# Altium integrated library NSC RF and IF Frequency Synthesiser.IntLib: 34 symbols
Pins are listed as number, name and electrical type; pins without a type are passive.

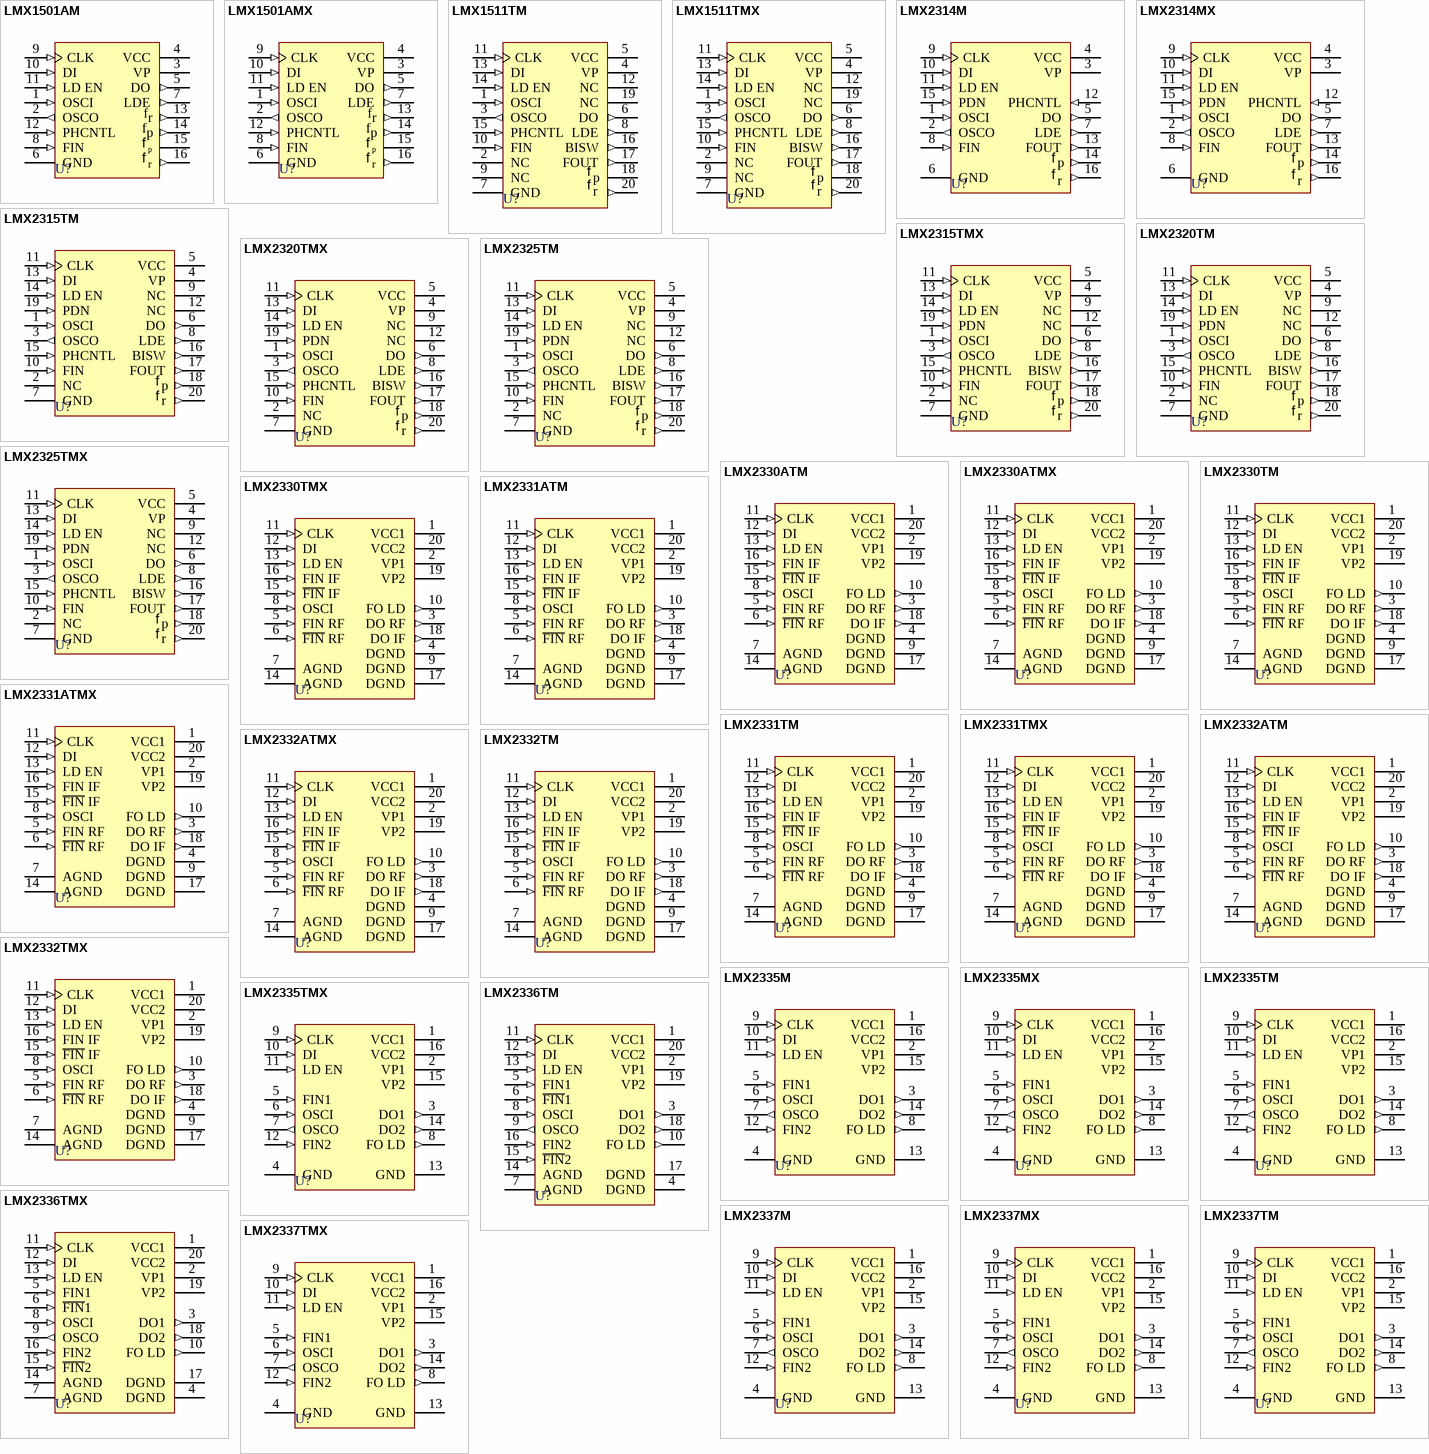
[diagram p0: symbols LMX1501AM to LMX2337TMX]

## LMX1501AM
designator U?
1.1 GHz Frequency Synthesizer for RF Personal Communication; ComponentAvailability: Obsolete; Published: 15-Apr-2002; LatestRevisionDate: 13-Apr-2006; LatestRevisionNote: IPC-7351 Footprint Added.; DatasheetVersion: Nov-1995; PackageVersion: 2000; PackageReference: M16A; Publisher: Altium Limited; PackageDescription: 16-Pin Small Outline Integrated Circuit 1.27 mm Pitch; Code_IPC: SOIC127P600-16; ComponentLink1Description: Manufacturer Link; ComponentLink1URL: http://www.national.com/; ComponentLink2Description: Discontinuation Notice; ComponentLink2URL: http://www.national.com/obs/obsolescence.txt; ComponentLink3Description: URL Link1; ComponentLink3URL: http://www.national.com/pf/LM/LMX1501A.html
footprint M16A_N (SOIC, 16-Leads, Body 9.9x3.9mm, Pitch 1.27mm, IPC Medium Density)
footprint M16A_L (SOIC, 16-Leads, Body 9.9x3.9mm, Pitch 1.27mm, IPC High Density)
footprint M16A_M (SOIC, 16-Leads, Body 9.9x3.9mm, Pitch 1.27mm, IPC Low Density)
3D model M16A (16-Pin Small Outline Integrated Circuit 1.27 mm Pitch)
pins: 1 OSCI (in), 2 OSCO (out), 3 VP (power), 4 VCC (power), 5 DO (out), 6 GND (power), 7 LDE (out), 8 FIN (in), 9 CLK (in), 10 DI (in), 11 LD EN (in), 12 PHCNTL (in), 13 Fr (out), 14 Fp (out), 15 PHIp (oc), 16 PHIr (out)
text: f; r; p

## LMX1501AMX
designator U?
1.1 GHz Frequency Synthesizer for RF Personal Communication; ComponentAvailability: Obsolete; Published: 15-Apr-2002; LatestRevisionDate: 13-Apr-2006; LatestRevisionNote: IPC-7351 Footprint Added.; DatasheetVersion: Nov-1995; PackageVersion: 2000; PackageReference: M16A; Publisher: Altium Limited; PackageDescription: 16-Pin Small Outline Integrated Circuit 1.27 mm Pitch; Code_IPC: SOIC127P600-16; ComponentLink1Description: Manufacturer Link; ComponentLink1URL: http://www.national.com/; ComponentLink2Description: Discontinuation Notice; ComponentLink2URL: http://www.national.com/obs/obsolescence.txt; ComponentLink3Description: URL Link1; ComponentLink3URL: http://www.national.com/pf/LM/LMX1501A.html
footprint M16A_N (SOIC, 16-Leads, Body 9.9x3.9mm, Pitch 1.27mm, IPC Medium Density)
footprint M16A_L (SOIC, 16-Leads, Body 9.9x3.9mm, Pitch 1.27mm, IPC High Density)
footprint M16A_M (SOIC, 16-Leads, Body 9.9x3.9mm, Pitch 1.27mm, IPC Low Density)
3D model M16A (16-Pin Small Outline Integrated Circuit 1.27 mm Pitch)
pins: 1 OSCI (in), 2 OSCO (out), 3 VP (power), 4 VCC (power), 5 DO (out), 6 GND (power), 7 LDE (out), 8 FIN (in), 9 CLK (in), 10 DI (in), 11 LD EN (in), 12 PHCNTL (in), 13 Fr (out), 14 Fp (out), 15 PHIp (oc), 16 PHIr (out)
text: f; r; p

## LMX1511TM
designator U?
1.1 GHz Frequency Synthesizer for RF Personal Communication; ComponentAvailability: Obsolete; Published: 15-Apr-2002; LatestRevisionDate: 06-Jun-2005; LatestRevisionNote: Stylized 3D Model Added.; DatasheetVersion: Nov-1995; PackageVersion: 2000; PackageReference: MTC20; Publisher: Altium Limited; PackageDescription: Shrink Small Outline; 20 Leads; Body Width 4.4 mm; Pitch 0.65 mm; ComponentLink1Description: Manufacturer Link; ComponentLink1URL: http://www.national.com/; ComponentLink2Description: Discontinuation Notice; ComponentLink2URL: http://www.national.com/obs/obsolescence.txt; ComponentLink3Description: URL Link1; ComponentLink3URL: http://www.national.com/pf/LM/LMX1511.html
footprint MTC20 (Shrink Small Outline; 20 Leads; Body Width 4.4 mm; Pitch 0.65 mm)
3D model MTC20 (Shrink Small Outline; 20 Leads; Body Width 4.4 mm; Pitch 0.65 mm)
pins: 1 OSCI (in), 2 NC, 3 OSCO (out), 4 VP (power), 5 VCC (power), 6 DO (out), 7 GND (power), 8 LDE (out), 9 NC, 10 FIN (in), 11 CLK (in), 12 NC, 13 DI (in), 14 LD EN (in), 15 PHCNTL (in), 16 BISW (out), 17 FOUT (out), 18 PHIp (oc), 19 NC (power), 20 PHIr (out)
text: f; p; r

## LMX1511TMX
designator U?
1.1 GHz Frequency Synthesizer for RF Personal Communication; ComponentAvailability: Obsolete; Published: 15-Apr-2002; LatestRevisionDate: 06-Jun-2005; LatestRevisionNote: Stylized 3D Model Added.; DatasheetVersion: Nov-1995; PackageVersion: 2000; PackageReference: MTC20; Publisher: Altium Limited; PackageDescription: Shrink Small Outline; 20 Leads; Body Width 4.4 mm; Pitch 0.65 mm; ComponentLink1Description: Manufacturer Link; ComponentLink1URL: http://www.national.com/; ComponentLink2Description: Discontinuation Notice; ComponentLink2URL: http://www.national.com/obs/obsolescence.txt; ComponentLink3Description: URL Link1; ComponentLink3URL: http://www.national.com/pf/LM/LMX1511.html
footprint MTC20 (Shrink Small Outline; 20 Leads; Body Width 4.4 mm; Pitch 0.65 mm)
3D model MTC20 (Shrink Small Outline; 20 Leads; Body Width 4.4 mm; Pitch 0.65 mm)
pins: 1 OSCI (in), 2 NC, 3 OSCO (out), 4 VP (power), 5 VCC (power), 6 DO (out), 7 GND (power), 8 LDE (out), 9 NC, 10 FIN (in), 11 CLK (in), 12 NC, 13 DI (in), 14 LD EN (in), 15 PHCNTL (in), 16 BISW (out), 17 FOUT (out), 18 PHIp (oc), 19 NC (power), 20 PHIr (out)
text: f; p; r

## LMX2314M
designator U?
1.2GHz Frequency Synthesizer for RF Personal Communication; Published: 15-Apr-2002; LatestRevisionDate: 13-Apr-2006; LatestRevisionNote: IPC-7351 Footprint Added.; DatasheetVersion: Feb-1995; PackageVersion: 2000; PackageReference: M16A; Publisher: Altium Limited; PackageDescription: 16-Pin Small Outline Integrated Circuit 1.27 mm Pitch; Code_IPC: SOIC127P600-16; ComponentLink1Description: Manufacturer Link; ComponentLink1URL: http://www.national.com/
footprint M16A_N (SOIC, 16-Leads, Body 9.9x3.9mm, Pitch 1.27mm, IPC Medium Density)
footprint M16A_L (SOIC, 16-Leads, Body 9.9x3.9mm, Pitch 1.27mm, IPC High Density)
footprint M16A_M (SOIC, 16-Leads, Body 9.9x3.9mm, Pitch 1.27mm, IPC Low Density)
3D model M16A (16-Pin Small Outline Integrated Circuit 1.27 mm Pitch)
pins: 1 OSCI (in), 2 OSCO (out), 3 VP (power), 4 VCC (power), 5 DO (out), 6 GND (power), 7 LDE (out), 8 FIN (in), 9 CLK (in), 10 DI (in), 11 LD EN (in), 12 PHCNTL (in), 13 FOUT (out), 14 PHIp (out), 15 PDN (in), 16 PHIr (out)
text: f; p; r

## LMX2314MX
designator U?
1.2GHz Frequency Synthesizer for RF Personal Communication; ComponentAvailability: Obsolete; Published: 15-Apr-2002; LatestRevisionDate: 13-Apr-2006; LatestRevisionNote: IPC-7351 Footprint Added.; DatasheetVersion: Feb-1995; PackageVersion: 2000; PackageReference: M16A; Publisher: Altium Limited; PackageDescription: 16-Pin Small Outline Integrated Circuit 1.27 mm Pitch; Code_IPC: SOIC127P600-16; ComponentLink1Description: Manufacturer Link; ComponentLink1URL: http://www.national.com/; ComponentLink2Description: Discontinuation Notice; ComponentLink2URL: http://www.national.com/obs/obsolescence.txt
footprint M16A_N (SOIC, 16-Leads, Body 9.9x3.9mm, Pitch 1.27mm, IPC Medium Density)
footprint M16A_L (SOIC, 16-Leads, Body 9.9x3.9mm, Pitch 1.27mm, IPC High Density)
footprint M16A_M (SOIC, 16-Leads, Body 9.9x3.9mm, Pitch 1.27mm, IPC Low Density)
3D model M16A (16-Pin Small Outline Integrated Circuit 1.27 mm Pitch)
pins: 1 OSCI (in), 2 OSCO (out), 3 VP (power), 4 VCC (power), 5 DO (out), 6 GND (power), 7 LDE (out), 8 FIN (in), 9 CLK (in), 10 DI (in), 11 LD EN (in), 12 PHCNTL (in), 13 FOUT (out), 14 PHIp (out), 15 PDN (in), 16 PHIr (out)
text: f; p; r

## LMX2315TM
designator U?
1.2GHz Frequency Synthesizer for RF Personal Communication; ComponentAvailability: Obsolete; Published: 15-Apr-2002; LatestRevisionDate: 06-Jun-2005; LatestRevisionNote: Stylized 3D Model Added.; DatasheetVersion: Sep-1996; PackageVersion: 2000; PackageReference: MTC20; Publisher: Altium Limited; PackageDescription: Shrink Small Outline; 20 Leads; Body Width 4.4 mm; Pitch 0.65 mm; ComponentLink1Description: Manufacturer Link; ComponentLink1URL: http://www.national.com/; ComponentLink2Description: Discontinuation Notice; ComponentLink2URL: http://www.national.com/obs/obsolescence.txt; ComponentLink3Description: URL Link1; ComponentLink3URL: http://www.national.com/pf/LM/LMX2315.html
footprint MTC20 (Shrink Small Outline; 20 Leads; Body Width 4.4 mm; Pitch 0.65 mm)
3D model MTC20 (Shrink Small Outline; 20 Leads; Body Width 4.4 mm; Pitch 0.65 mm)
pins: 1 OSCI (in), 2 NC, 3 OSCO (out), 4 VP (power), 5 VCC (power), 6 DO (out), 7 GND (power), 8 LDE (out), 9 NC, 10 FIN (in), 11 CLK (in), 12 NC, 13 DI (in), 14 LD EN (in), 15 PHCNTL (in), 16 BISW (out), 17 FOUT (out), 18 PHIp (out), 19 PDN (in), 20 PHIr (out)
text: f; p; r

## LMX2315TMX
designator U?
1.2GHz Frequency Synthesizer for RF Personal Communication; ComponentAvailability: Obsolete; Published: 15-Apr-2002; LatestRevisionDate: 06-Jun-2005; LatestRevisionNote: Stylized 3D Model Added.; DatasheetVersion: Sep-1996; PackageVersion: 2000; PackageReference: MTC20; Publisher: Altium Limited; PackageDescription: Shrink Small Outline; 20 Leads; Body Width 4.4 mm; Pitch 0.65 mm; ComponentLink1Description: Manufacturer Link; ComponentLink1URL: http://www.national.com/; ComponentLink2Description: Discontinuation Notice; ComponentLink2URL: http://www.national.com/obs/obsolescence.txt; ComponentLink3Description: URL Link1; ComponentLink3URL: http://www.national.com/pf/LM/LMX2315.html
footprint MTC20 (Shrink Small Outline; 20 Leads; Body Width 4.4 mm; Pitch 0.65 mm)
3D model MTC20 (Shrink Small Outline; 20 Leads; Body Width 4.4 mm; Pitch 0.65 mm)
pins: 1 OSCI (in), 2 NC, 3 OSCO (out), 4 VP (power), 5 VCC (power), 6 DO (out), 7 GND (power), 8 LDE (out), 9 NC, 10 FIN (in), 11 CLK (in), 12 NC, 13 DI (in), 14 LD EN (in), 15 PHCNTL (in), 16 BISW (out), 17 FOUT (out), 18 PHIp (out), 19 PDN (in), 20 PHIr (out)
text: f; p; r

## LMX2320TM
designator U?
2.0 GHz Frequency Synthesizer for RF Personal Communication; ComponentAvailability: Obsolete; Published: 15-Apr-2002; LatestRevisionDate: 06-Jun-2005; LatestRevisionNote: Stylized 3D Model Added.; DatasheetVersion: Sep-1996; PackageVersion: 2000; PackageReference: MTC20; Publisher: Altium Limited; PackageDescription: Shrink Small Outline; 20 Leads; Body Width 4.4 mm; Pitch 0.65 mm; ComponentLink1Description: Manufacturer Link; ComponentLink1URL: http://www.national.com/; ComponentLink2Description: Discontinuation Notice; ComponentLink2URL: http://www.national.com/obs/obsolescence.txt; ComponentLink3Description: URL Link1; ComponentLink3URL: http://www.national.com/pf/LM/LMX2320.html
footprint MTC20 (Shrink Small Outline; 20 Leads; Body Width 4.4 mm; Pitch 0.65 mm)
3D model MTC20 (Shrink Small Outline; 20 Leads; Body Width 4.4 mm; Pitch 0.65 mm)
pins: 1 OSCI (in), 2 NC, 3 OSCO (out), 4 VP (power), 5 VCC (power), 6 DO (out), 7 GND (power), 8 LDE (out), 9 NC, 10 FIN (in), 11 CLK (in), 12 NC, 13 DI (in), 14 LD EN (in), 15 PHCNTL (in), 16 BISW (out), 17 FOUT (out), 18 PHIp (out), 19 PDN (in), 20 PHIr (out)
text: f; p; r

## LMX2320TMX
designator U?
2.0 GHz Frequency Synthesizer for RF Personal Communication; ComponentAvailability: Obsolete; Published: 15-Apr-2002; LatestRevisionDate: 06-Jun-2005; LatestRevisionNote: Stylized 3D Model Added.; DatasheetVersion: Sep-1996; PackageVersion: 2000; PackageReference: MTC20; Publisher: Altium Limited; PackageDescription: Shrink Small Outline; 20 Leads; Body Width 4.4 mm; Pitch 0.65 mm; ComponentLink1Description: Manufacturer Link; ComponentLink1URL: http://www.national.com/; ComponentLink2Description: Discontinuation Notice; ComponentLink2URL: http://www.national.com/obs/obsolescence.txt; ComponentLink3Description: URL Link1; ComponentLink3URL: http://www.national.com/pf/LM/LMX2320.html
footprint MTC20 (Shrink Small Outline; 20 Leads; Body Width 4.4 mm; Pitch 0.65 mm)
3D model MTC20 (Shrink Small Outline; 20 Leads; Body Width 4.4 mm; Pitch 0.65 mm)
pins: 1 OSCI (in), 2 NC, 3 OSCO (out), 4 VP (power), 5 VCC (power), 6 DO (out), 7 GND (power), 8 LDE (out), 9 NC, 10 FIN (in), 11 CLK (in), 12 NC, 13 DI (in), 14 LD EN (in), 15 PHCNTL (in), 16 BISW (out), 17 FOUT (out), 18 PHIp (out), 19 PDN (in), 20 PHIr (out)
text: f; p; r

## LMX2325TM
designator U?
2.5 GHz Frequency Synthesizer for RF Personal Communication; ComponentAvailability: Obsolete; Published: 15-Apr-2002; LatestRevisionDate: 06-Jun-2005; LatestRevisionNote: Stylized 3D Model Added.; DatasheetVersion: Sep-1996; PackageVersion: 2000; PackageReference: MTC20; Publisher: Altium Limited; PackageDescription: Shrink Small Outline; 20 Leads; Body Width 4.4 mm; Pitch 0.65 mm; ComponentLink1Description: Manufacturer Link; ComponentLink1URL: http://www.national.com/; ComponentLink2Description: Discontinuation Notice; ComponentLink2URL: http://www.national.com/obs/obsolescence.txt; ComponentLink3Description: URL Link1; ComponentLink3URL: http://www.national.com/pf/LM/LMX2325.html
footprint MTC20 (Shrink Small Outline; 20 Leads; Body Width 4.4 mm; Pitch 0.65 mm)
3D model MTC20 (Shrink Small Outline; 20 Leads; Body Width 4.4 mm; Pitch 0.65 mm)
pins: 1 OSCI (in), 2 NC, 3 OSCO (out), 4 VP (power), 5 VCC (power), 6 DO (out), 7 GND (power), 8 LDE (out), 9 NC, 10 FIN (in), 11 CLK (in), 12 NC, 13 DI (in), 14 LD EN (in), 15 PHCNTL (in), 16 BISW (out), 17 FOUT (out), 18 PHIp (out), 19 PDN (in), 20 PHIr (out)
text: f; p; r

## LMX2325TMX
designator U?
2.5 GHz Frequency Synthesizer for RF Personal Communication; ComponentAvailability: Obsolete; Published: 15-Apr-2002; LatestRevisionDate: 06-Jun-2005; LatestRevisionNote: Stylized 3D Model Added.; DatasheetVersion: Sep-1996; PackageVersion: 2000; PackageReference: MTC20; Publisher: Altium Limited; PackageDescription: Shrink Small Outline; 20 Leads; Body Width 4.4 mm; Pitch 0.65 mm; ComponentLink1Description: Manufacturer Link; ComponentLink1URL: http://www.national.com/; ComponentLink2Description: Discontinuation Notice; ComponentLink2URL: http://www.national.com/obs/obsolescence.txt; ComponentLink3Description: URL Link1; ComponentLink3URL: http://www.national.com/pf/LM/LMX2325.html
footprint MTC20 (Shrink Small Outline; 20 Leads; Body Width 4.4 mm; Pitch 0.65 mm)
3D model MTC20 (Shrink Small Outline; 20 Leads; Body Width 4.4 mm; Pitch 0.65 mm)
pins: 1 OSCI (in), 2 NC, 3 OSCO (out), 4 VP (power), 5 VCC (power), 6 DO (out), 7 GND (power), 8 LDE (out), 9 NC, 10 FIN (in), 11 CLK (in), 12 NC, 13 DI (in), 14 LD EN (in), 15 PHCNTL (in), 16 BISW (out), 17 FOUT (out), 18 PHIp (out), 19 PDN (in), 20 PHIr (out)
text: f; p; r

## LMX2330ATM
designator U?
2.5GHz/510MHz Dual Frequency Synthesizer for RF Personal Communication; ComponentAvailability: Obsolete; Published: 15-Apr-2002; LatestRevisionDate: 06-Jun-2005; LatestRevisionNote: Stylized 3D Model Added.; DatasheetVersion: May-1999; PackageVersion: 2000; PackageReference: MTC20; Publisher: Altium Limited; PackageDescription: Shrink Small Outline; 20 Leads; Body Width 4.4 mm; Pitch 0.65 mm; ComponentLink1Description: Manufacturer Link; ComponentLink1URL: http://www.national.com/; ComponentLink2Description: Discontinuation Notice; ComponentLink2URL: http://www.national.com/obs/obsolescence.txt; ComponentLink3Description: URL Link1; ComponentLink3URL: http://www.national.com/pf/LM/LMX2330A.html
footprint MTC20 (Shrink Small Outline; 20 Leads; Body Width 4.4 mm; Pitch 0.65 mm)
3D model MTC20 (Shrink Small Outline; 20 Leads; Body Width 4.4 mm; Pitch 0.65 mm)
pins: 1 VCC1 (power), 2 VP1 (power), 3 DO RF (out), 4 DGND (power), 5 FIN RF (in), 6 ~{FIN} RF (in), 7 AGND (power), 8 OSCI (in), 9 DGND (power), 10 FO LD (out), 11 CLK (in), 12 DI (in), 13 LD EN (in), 14 AGND (power), 15 ~{FIN} IF (in), 16 FIN IF (in), 17 DGND (power), 18 DO IF (out), 19 VP2 (power), 20 VCC2 (power)

## LMX2330ATMX
designator U?
2.5GHz/510MHz Dual Frequency Synthesizer for RF Personal Communication; ComponentAvailability: Obsolete; Published: 15-Apr-2002; LatestRevisionDate: 06-Jun-2005; LatestRevisionNote: Stylized 3D Model Added.; DatasheetVersion: May-1999; PackageVersion: 2000; PackageReference: MTC20; Publisher: Altium Limited; PackageDescription: Shrink Small Outline; 20 Leads; Body Width 4.4 mm; Pitch 0.65 mm; ComponentLink1Description: Manufacturer Link; ComponentLink1URL: http://www.national.com/; ComponentLink2Description: Discontinuation Notice; ComponentLink2URL: http://www.national.com/obs/obsolescence.txt; ComponentLink3Description: URL Link1; ComponentLink3URL: http://www.national.com/pf/LM/LMX2330A.html
footprint MTC20 (Shrink Small Outline; 20 Leads; Body Width 4.4 mm; Pitch 0.65 mm)
3D model MTC20 (Shrink Small Outline; 20 Leads; Body Width 4.4 mm; Pitch 0.65 mm)
pins: 1 VCC1 (power), 2 VP1 (power), 3 DO RF (out), 4 DGND (power), 5 FIN RF (in), 6 ~{FIN} RF (in), 7 AGND (power), 8 OSCI (in), 9 DGND (power), 10 FO LD (out), 11 CLK (in), 12 DI (in), 13 LD EN (in), 14 AGND (power), 15 ~{FIN} IF (in), 16 FIN IF (in), 17 DGND (power), 18 DO IF (out), 19 VP2 (power), 20 VCC2 (power)

## LMX2330TM
designator U?
2.5GHz/510MHz Dual Frequency Synthesizer for RF Personal Communication; Published: 15-Apr-2002; LatestRevisionDate: 06-Jun-2005; LatestRevisionNote: Stylized 3D Model Added.; DatasheetVersion: Jan-1995; PackageVersion: 2000; PackageReference: MTA20; Publisher: Altium Limited; PackageDescription: Shrink Small Outline; 20 Leads; Body Width 4.4 mm; Pitch 0.65 mm; ComponentLink1Description: Manufacturer Link; ComponentLink1URL: http://www.national.com/
footprint MTA20 (Shrink Small Outline; 20 Leads; Body Width 4.4 mm; Pitch 0.65 mm)
3D model MTC20 (Shrink Small Outline; 20 Leads; Body Width 4.4 mm; Pitch 0.65 mm)
pins: 1 VCC1 (power), 2 VP1 (power), 3 DO RF (out), 4 DGND (power), 5 FIN RF (in), 6 ~{FIN} RF (in), 7 AGND (power), 8 OSCI (in), 9 DGND (power), 10 FO LD (out), 11 CLK (in), 12 DI (in), 13 LD EN (in), 14 AGND (power), 15 ~{FIN} IF (in), 16 FIN IF (in), 17 DGND (power), 18 DO IF (out), 19 VP2 (power), 20 VCC2 (power)

## LMX2330TMX
designator U?
2.5GHz/510MHz Dual Frequency Synthesizer for RF Personal Communication; Published: 15-Apr-2002; LatestRevisionDate: 06-Jun-2005; LatestRevisionNote: Stylized 3D Model Added.; DatasheetVersion: Jan-1995; PackageVersion: 2000; PackageReference: MTA20; Publisher: Altium Limited; PackageDescription: Shrink Small Outline; 20 Leads; Body Width 4.4 mm; Pitch 0.65 mm; ComponentLink1Description: Manufacturer Link; ComponentLink1URL: http://www.national.com/
footprint MTA20 (Shrink Small Outline; 20 Leads; Body Width 4.4 mm; Pitch 0.65 mm)
3D model MTC20 (Shrink Small Outline; 20 Leads; Body Width 4.4 mm; Pitch 0.65 mm)
pins: 1 VCC1 (power), 2 VP1 (power), 3 DO RF (out), 4 DGND (power), 5 FIN RF (in), 6 ~{FIN} RF (in), 7 AGND (power), 8 OSCI (in), 9 DGND (power), 10 FO LD (out), 11 CLK (in), 12 DI (in), 13 LD EN (in), 14 AGND (power), 15 ~{FIN} IF (in), 16 FIN IF (in), 17 DGND (power), 18 DO IF (out), 19 VP2 (power), 20 VCC2 (power)

## LMX2331ATM
designator U?
2.0GHz/510MHz Dual Frequency Synthesizer for RF Personal Communication; ComponentAvailability: Obsolete; Published: 15-Apr-2002; LatestRevisionDate: 06-Jun-2005; LatestRevisionNote: Stylized 3D Model Added.; DatasheetVersion: May-1999; PackageVersion: 2000; PackageReference: MTC20; Publisher: Altium Limited; PackageDescription: Shrink Small Outline; 20 Leads; Body Width 4.4 mm; Pitch 0.65 mm; ComponentLink1Description: Manufacturer Link; ComponentLink1URL: http://www.national.com/; ComponentLink2Description: Discontinuation Notice; ComponentLink2URL: http://www.national.com/obs/obsolescence.txt; ComponentLink3Description: URL Link1; ComponentLink3URL: http://www.national.com/pf/LM/LMX2331A.html
footprint MTC20 (Shrink Small Outline; 20 Leads; Body Width 4.4 mm; Pitch 0.65 mm)
3D model MTC20 (Shrink Small Outline; 20 Leads; Body Width 4.4 mm; Pitch 0.65 mm)
pins: 1 VCC1 (power), 2 VP1 (power), 3 DO RF (out), 4 DGND (power), 5 FIN RF (in), 6 ~{FIN} RF (in), 7 AGND (power), 8 OSCI (in), 9 DGND (power), 10 FO LD (out), 11 CLK (in), 12 DI (in), 13 LD EN (in), 14 AGND (power), 15 ~{FIN} IF (in), 16 FIN IF (in), 17 DGND (power), 18 DO IF (out), 19 VP2 (power), 20 VCC2 (power)

## LMX2331ATMX
designator U?
2.0GHz/510MHz Dual Frequency Synthesizer for RF Personal Communication; ComponentAvailability: Obsolete; Published: 15-Apr-2002; LatestRevisionDate: 06-Jun-2005; LatestRevisionNote: Stylized 3D Model Added.; DatasheetVersion: May-1999; PackageVersion: 2000; PackageReference: MTC20; Publisher: Altium Limited; PackageDescription: Shrink Small Outline; 20 Leads; Body Width 4.4 mm; Pitch 0.65 mm; ComponentLink1Description: Manufacturer Link; ComponentLink1URL: http://www.national.com/; ComponentLink2Description: Discontinuation Notice; ComponentLink2URL: http://www.national.com/obs/obsolescence.txt; ComponentLink3Description: URL Link1; ComponentLink3URL: http://www.national.com/pf/LM/LMX2331A.html
footprint MTC20 (Shrink Small Outline; 20 Leads; Body Width 4.4 mm; Pitch 0.65 mm)
3D model MTC20 (Shrink Small Outline; 20 Leads; Body Width 4.4 mm; Pitch 0.65 mm)
pins: 1 VCC1 (power), 2 VP1 (power), 3 DO RF (out), 4 DGND (power), 5 FIN RF (in), 6 ~{FIN} RF (in), 7 AGND (power), 8 OSCI (in), 9 DGND (power), 10 FO LD (out), 11 CLK (in), 12 DI (in), 13 LD EN (in), 14 AGND (power), 15 ~{FIN} IF (in), 16 FIN IF (in), 17 DGND (power), 18 DO IF (out), 19 VP2 (power), 20 VCC2 (power)

## LMX2331TM
designator U?
2.0GHz/510MHz Dual Frequency Synthesizer for RF Personal Communication; ComponentAvailability: Obsolete; Published: 15-Apr-2002; LatestRevisionDate: 06-Jun-2005; LatestRevisionNote: Stylized 3D Model Added.; DatasheetVersion: Jan-1995; PackageVersion: 2000; PackageReference: MTA20; Publisher: Altium Limited; PackageDescription: Shrink Small Outline; 20 Leads; Body Width 4.4 mm; Pitch 0.65 mm; ComponentLink1Description: Manufacturer Link; ComponentLink1URL: http://www.national.com/; ComponentLink2Description: Discontinuation Notice; ComponentLink2URL: http://www.national.com/obs/obsolescence.txt
footprint MTA20 (Shrink Small Outline; 20 Leads; Body Width 4.4 mm; Pitch 0.65 mm)
3D model MTC20 (Shrink Small Outline; 20 Leads; Body Width 4.4 mm; Pitch 0.65 mm)
pins: 1 VCC1 (power), 2 VP1 (power), 3 DO RF (out), 4 DGND (power), 5 FIN RF (in), 6 ~{FIN} RF (in), 7 AGND (power), 8 OSCI (in), 9 DGND (power), 10 FO LD (out), 11 CLK (in), 12 DI (in), 13 LD EN (in), 14 AGND (power), 15 ~{FIN} IF (in), 16 FIN IF (in), 17 DGND (power), 18 DO IF (out), 19 VP2 (power), 20 VCC2 (power)

## LMX2331TMX
designator U?
2.0GHz/510MHz Dual Frequency Synthesizer for RF Personal Communication; ComponentAvailability: Obsolete; Published: 15-Apr-2002; LatestRevisionDate: 06-Jun-2005; LatestRevisionNote: Stylized 3D Model Added.; DatasheetVersion: Jan-1995; PackageVersion: 2000; PackageReference: MTA20; Publisher: Altium Limited; PackageDescription: Shrink Small Outline; 20 Leads; Body Width 4.4 mm; Pitch 0.65 mm; ComponentLink1Description: Manufacturer Link; ComponentLink1URL: http://www.national.com/; ComponentLink2Description: Discontinuation Notice; ComponentLink2URL: http://www.national.com/obs/obsolescence.txt
footprint MTA20 (Shrink Small Outline; 20 Leads; Body Width 4.4 mm; Pitch 0.65 mm)
3D model MTC20 (Shrink Small Outline; 20 Leads; Body Width 4.4 mm; Pitch 0.65 mm)
pins: 1 VCC1 (power), 2 VP1 (power), 3 DO RF (out), 4 DGND (power), 5 FIN RF (in), 6 ~{FIN} RF (in), 7 AGND (power), 8 OSCI (in), 9 DGND (power), 10 FO LD (out), 11 CLK (in), 12 DI (in), 13 LD EN (in), 14 AGND (power), 15 ~{FIN} IF (in), 16 FIN IF (in), 17 DGND (power), 18 DO IF (out), 19 VP2 (power), 20 VCC2 (power)

## LMX2332ATM
designator U?
1.2GHz/510MHz Dual Frequency Synthesizer for RF Personal Communication; ComponentAvailability: Obsolete; Published: 15-Apr-2002; LatestRevisionDate: 06-Jun-2005; LatestRevisionNote: Stylized 3D Model Added.; DatasheetVersion: May-1999; PackageVersion: 2000; PackageReference: MTC20; Publisher: Altium Limited; PackageDescription: Shrink Small Outline; 20 Leads; Body Width 4.4 mm; Pitch 0.65 mm; ComponentLink1Description: Manufacturer Link; ComponentLink1URL: http://www.national.com/; ComponentLink2Description: Discontinuation Notice; ComponentLink2URL: http://www.national.com/obs/obsolescence.txt; ComponentLink3Description: URL Link1; ComponentLink3URL: http://www.national.com/pf/LM/LMX2332A.html
footprint MTC20 (Shrink Small Outline; 20 Leads; Body Width 4.4 mm; Pitch 0.65 mm)
3D model MTC20 (Shrink Small Outline; 20 Leads; Body Width 4.4 mm; Pitch 0.65 mm)
pins: 1 VCC1 (power), 2 VP1 (power), 3 DO RF (out), 4 DGND (power), 5 FIN RF (in), 6 ~{FIN} RF (in), 7 AGND (power), 8 OSCI (in), 9 DGND (power), 10 FO LD (out), 11 CLK (in), 12 DI (in), 13 LD EN (in), 14 AGND (power), 15 ~{FIN} IF (in), 16 FIN IF (in), 17 DGND (power), 18 DO IF (out), 19 VP2 (power), 20 VCC2 (power)

## LMX2332ATMX
designator U?
1.2GHz/510MHz Dual Frequency Synthesizer for RF Personal Communication; ComponentAvailability: Obsolete; Published: 15-Apr-2002; LatestRevisionDate: 06-Jun-2005; LatestRevisionNote: Stylized 3D Model Added.; DatasheetVersion: May-1999; PackageVersion: 2000; PackageReference: MTC20; Publisher: Altium Limited; PackageDescription: Shrink Small Outline; 20 Leads; Body Width 4.4 mm; Pitch 0.65 mm; ComponentLink1Description: Manufacturer Link; ComponentLink1URL: http://www.national.com/; ComponentLink2Description: Discontinuation Notice; ComponentLink2URL: http://www.national.com/obs/obsolescence.txt; ComponentLink3Description: URL Link1; ComponentLink3URL: http://www.national.com/pf/LM/LMX2332A.html
footprint MTC20 (Shrink Small Outline; 20 Leads; Body Width 4.4 mm; Pitch 0.65 mm)
3D model MTC20 (Shrink Small Outline; 20 Leads; Body Width 4.4 mm; Pitch 0.65 mm)
pins: 1 VCC1 (power), 2 VP1 (power), 3 DO RF (out), 4 DGND (power), 5 FIN RF (in), 6 ~{FIN} RF (in), 7 AGND (power), 8 OSCI (in), 9 DGND (power), 10 FO LD (out), 11 CLK (in), 12 DI (in), 13 LD EN (in), 14 AGND (power), 15 ~{FIN} IF (in), 16 FIN IF (in), 17 DGND (power), 18 DO IF (out), 19 VP2 (power), 20 VCC2 (power)

## LMX2332TM
designator U?
1.2GHz/510MHz Dual Frequency Synthesizer for RF Personal Communication; Published: 15-Apr-2002; LatestRevisionDate: 06-Jun-2005; LatestRevisionNote: Stylized 3D Model Added.; DatasheetVersion: Jan-1995; PackageVersion: 2000; PackageReference: MTA20; Publisher: Altium Limited; PackageDescription: Shrink Small Outline; 20 Leads; Body Width 4.4 mm; Pitch 0.65 mm; ComponentLink1Description: Manufacturer Link; ComponentLink1URL: http://www.national.com/
footprint MTA20 (Shrink Small Outline; 20 Leads; Body Width 4.4 mm; Pitch 0.65 mm)
3D model MTC20 (Shrink Small Outline; 20 Leads; Body Width 4.4 mm; Pitch 0.65 mm)
pins: 1 VCC1 (power), 2 VP1 (power), 3 DO RF (out), 4 DGND (power), 5 FIN RF (in), 6 ~{FIN} RF (in), 7 AGND (power), 8 OSCI (in), 9 DGND (power), 10 FO LD (out), 11 CLK (in), 12 DI (in), 13 LD EN (in), 14 AGND (power), 15 ~{FIN} IF (in), 16 FIN IF (in), 17 DGND (power), 18 DO IF (out), 19 VP2 (power), 20 VCC2 (power)

## LMX2332TMX
designator U?
1.2GHz/510MHz Dual Frequency Synthesizer for RF Personal Communication; Published: 15-Apr-2002; LatestRevisionDate: 06-Jun-2005; LatestRevisionNote: Stylized 3D Model Added.; DatasheetVersion: Jan-1995; PackageVersion: 2000; PackageReference: MTA20; Publisher: Altium Limited; PackageDescription: Shrink Small Outline; 20 Leads; Body Width 4.4 mm; Pitch 0.65 mm; ComponentLink1Description: Manufacturer Link; ComponentLink1URL: http://www.national.com/
footprint MTA20 (Shrink Small Outline; 20 Leads; Body Width 4.4 mm; Pitch 0.65 mm)
3D model MTC20 (Shrink Small Outline; 20 Leads; Body Width 4.4 mm; Pitch 0.65 mm)
pins: 1 VCC1 (power), 2 VP1 (power), 3 DO RF (out), 4 DGND (power), 5 FIN RF (in), 6 ~{FIN} RF (in), 7 AGND (power), 8 OSCI (in), 9 DGND (power), 10 FO LD (out), 11 CLK (in), 12 DI (in), 13 LD EN (in), 14 AGND (power), 15 ~{FIN} IF (in), 16 FIN IF (in), 17 DGND (power), 18 DO IF (out), 19 VP2 (power), 20 VCC2 (power)

## LMX2335M
designator U?
1.1GHz/1.1GHz Dual Frequency Synthesizer for RF Personal Communilcation; ComponentAvailability: Obsolete; Published: 15-Apr-2002; LatestRevisionDate: 13-Apr-2006; LatestRevisionNote: IPC-7351 Footprint Added.; DatasheetVersion: Sep-1996; PackageVersion: 2000; PackageReference: M16A; Publisher: Altium Limited; PackageDescription: 16-Pin Small Outline Integrated Circuit 1.27 mm Pitch; Code_IPC: SOIC127P600-16; ComponentLink1Description: Manufacturer Link; ComponentLink1URL: http://www.national.com/; ComponentLink2Description: Discontinuation Notice; ComponentLink2URL: http://www.national.com/obs/obsolescence.txt; ComponentLink3Description: URL Link1; ComponentLink3URL: http://www.national.com/pf/LM/LMX2335.html
footprint M16A_N (SOIC, 16-Leads, Body 9.9x3.9mm, Pitch 1.27mm, IPC Medium Density)
footprint M16A_L (SOIC, 16-Leads, Body 9.9x3.9mm, Pitch 1.27mm, IPC High Density)
footprint M16A_M (SOIC, 16-Leads, Body 9.9x3.9mm, Pitch 1.27mm, IPC Low Density)
3D model M16A (16-Pin Small Outline Integrated Circuit 1.27 mm Pitch)
pins: 1 VCC1 (power), 2 VP1 (power), 3 DO1 (out), 4 GND (power), 5 FIN1 (in), 6 OSCI (in), 7 OSCO (out), 8 FO LD (out), 9 CLK (in), 10 DI (in), 11 LD EN (in), 12 FIN2 (in), 13 GND (power), 14 DO2 (out), 15 VP2 (power), 16 VCC2 (power)

## LMX2335MX
designator U?
1.1GHz/1.1GHz Dual Frequency Synthesizer for RF Personal Communilcation; ComponentAvailability: Obsolete; Published: 15-Apr-2002; LatestRevisionDate: 13-Apr-2006; LatestRevisionNote: IPC-7351 Footprint Added.; DatasheetVersion: Sep-1996; PackageVersion: 2000; PackageReference: M16A; Publisher: Altium Limited; PackageDescription: 16-Pin Small Outline Integrated Circuit 1.27 mm Pitch; Code_IPC: SOIC127P600-16; ComponentLink1Description: Manufacturer Link; ComponentLink1URL: http://www.national.com/; ComponentLink2Description: Discontinuation Notice; ComponentLink2URL: http://www.national.com/obs/obsolescence.txt; ComponentLink3Description: URL Link1; ComponentLink3URL: http://www.national.com/pf/LM/LMX2335.html
footprint M16A_N (SOIC, 16-Leads, Body 9.9x3.9mm, Pitch 1.27mm, IPC Medium Density)
footprint M16A_L (SOIC, 16-Leads, Body 9.9x3.9mm, Pitch 1.27mm, IPC High Density)
footprint M16A_M (SOIC, 16-Leads, Body 9.9x3.9mm, Pitch 1.27mm, IPC Low Density)
3D model M16A (16-Pin Small Outline Integrated Circuit 1.27 mm Pitch)
pins: 1 VCC1 (power), 2 VP1 (power), 3 DO1 (out), 4 GND (power), 5 FIN1 (in), 6 OSCI (in), 7 OSCO (out), 8 FO LD (out), 9 CLK (in), 10 DI (in), 11 LD EN (in), 12 FIN2 (in), 13 GND (power), 14 DO2 (out), 15 VP2 (power), 16 VCC2 (power)

## LMX2335TM
designator U?
1.1GHz/1.1GHz Dual Frequency Synthesizer for RF Personal Communilcation; ComponentAvailability: Obsolete; Published: 15-Apr-2002; LatestRevisionDate: 06-Jun-2005; LatestRevisionNote: Stylized 3D Model Added.; DatasheetVersion: Sep-1996; PackageVersion: 2000; PackageReference: MTC16; Publisher: Altium Limited; PackageDescription: Shrink Small Outline; 16 Leads; Body Width 4.4 mm; Pitch 0.65 mm; ComponentLink1Description: Manufacturer Link; ComponentLink1URL: http://www.national.com/; ComponentLink2Description: Discontinuation Notice; ComponentLink2URL: http://www.national.com/obs/obsolescence.txt; ComponentLink3Description: URL Link1; ComponentLink3URL: http://www.national.com/pf/LM/LMX2335.html
footprint MTC16 (Shrink Small Outline; 16 Leads; Body Width 4.4 mm; Pitch 0.65 mm)
3D model MTC16 (Shrink Small Outline; 16 Leads; Body Width 4.4 mm; Pitch 0.65 mm)
pins: 1 VCC1 (power), 2 VP1 (power), 3 DO1 (out), 4 GND (power), 5 FIN1 (in), 6 OSCI (in), 7 OSCO (out), 8 FO LD (out), 9 CLK (in), 10 DI (in), 11 LD EN (in), 12 FIN2 (in), 13 GND (power), 14 DO2 (out), 15 VP2 (power), 16 VCC2 (power)

## LMX2335TMX
designator U?
1.1GHz/1.1GHz Dual Frequency Synthesizer for RF Personal Communilcation; ComponentAvailability: Obsolete; Published: 15-Apr-2002; LatestRevisionDate: 06-Jun-2005; LatestRevisionNote: Stylized 3D Model Added.; DatasheetVersion: Sep-1996; PackageVersion: 2000; PackageReference: MTC16; Publisher: Altium Limited; PackageDescription: Shrink Small Outline; 16 Leads; Body Width 4.4 mm; Pitch 0.65 mm; ComponentLink1Description: Manufacturer Link; ComponentLink1URL: http://www.national.com/; ComponentLink2Description: Discontinuation Notice; ComponentLink2URL: http://www.national.com/obs/obsolescence.txt; ComponentLink3Description: URL Link1; ComponentLink3URL: http://www.national.com/pf/LM/LMX2335.html
footprint MTC16 (Shrink Small Outline; 16 Leads; Body Width 4.4 mm; Pitch 0.65 mm)
3D model MTC16 (Shrink Small Outline; 16 Leads; Body Width 4.4 mm; Pitch 0.65 mm)
pins: 1 VCC1 (power), 2 VP1 (power), 3 DO1 (out), 4 GND (power), 5 FIN1 (in), 6 OSCI (in), 7 OSCO (out), 8 FO LD (out), 9 CLK (in), 10 DI (in), 11 LD EN (in), 12 FIN2 (in), 13 GND (power), 14 DO2 (out), 15 VP2 (power), 16 VCC2 (power)

## LMX2336TM
designator U?
2.0GHz/1.1GHz Dual Frequency Synthesizer for RF Personal Communilcation; ComponentAvailability: Obsolete; Published: 15-Apr-2002; LatestRevisionDate: 06-Jun-2005; LatestRevisionNote: Stylized 3D Model Added.; DatasheetVersion: Sep-1996; PackageVersion: 2000; PackageReference: MTC20; Publisher: Altium Limited; PackageDescription: Shrink Small Outline; 20 Leads; Body Width 4.4 mm; Pitch 0.65 mm; ComponentLink1Description: Manufacturer Link; ComponentLink1URL: http://www.national.com/; ComponentLink2Description: Discontinuation Notice; ComponentLink2URL: http://www.national.com/obs/obsolescence.txt; ComponentLink3Description: URL Link1; ComponentLink3URL: http://www.national.com/pf/LM/LMX2336.html
footprint MTC20 (Shrink Small Outline; 20 Leads; Body Width 4.4 mm; Pitch 0.65 mm)
3D model MTC20 (Shrink Small Outline; 20 Leads; Body Width 4.4 mm; Pitch 0.65 mm)
pins: 1 VCC1 (power), 2 VP1 (power), 3 DO1 (out), 4 DGND (power), 5 FIN1 (in), 6 ~{FIN}1 (in), 7 AGND (power), 8 OSCI (in), 9 OSCO (out), 10 FO LD (out), 11 CLK (in), 12 DI (in), 13 LD EN (in), 14 AGND (power), 15 ~{FIN}2 (in), 16 FIN2 (in), 17 DGND (power), 18 DO2 (out), 19 VP2 (power), 20 VCC2 (power)

## LMX2336TMX
designator U?
2.0GHz/1.1GHz Dual Frequency Synthesizer for RF Personal Communilcation; ComponentAvailability: Obsolete; Published: 15-Apr-2002; LatestRevisionDate: 06-Jun-2005; LatestRevisionNote: Stylized 3D Model Added.; DatasheetVersion: Sep-1996; PackageVersion: 2000; PackageReference: MTC20; Publisher: Altium Limited; PackageDescription: Shrink Small Outline; 20 Leads; Body Width 4.4 mm; Pitch 0.65 mm; ComponentLink1Description: Manufacturer Link; ComponentLink1URL: http://www.national.com/; ComponentLink2Description: Discontinuation Notice; ComponentLink2URL: http://www.national.com/obs/obsolescence.txt; ComponentLink3Description: URL Link1; ComponentLink3URL: http://www.national.com/pf/LM/LMX2336.html
footprint MTC20 (Shrink Small Outline; 20 Leads; Body Width 4.4 mm; Pitch 0.65 mm)
3D model MTC20 (Shrink Small Outline; 20 Leads; Body Width 4.4 mm; Pitch 0.65 mm)
pins: 1 VCC1 (power), 2 VP1 (power), 3 DO1 (out), 4 DGND (power), 5 FIN1 (in), 6 ~{FIN}1 (in), 7 AGND (power), 8 OSCI (in), 9 OSCO (out), 10 FO LD (out), 11 CLK (in), 12 DI (in), 13 LD EN (in), 14 AGND (power), 15 ~{FIN}2 (in), 16 FIN2 (in), 17 DGND (power), 18 DO2 (out), 19 VP2 (power), 20 VCC2 (power)

## LMX2337M
designator U?
550MHz/550MHz Dual Frequency Synthesizer for RF Personal Communilcation; ComponentAvailability: Obsolete; Published: 15-Apr-2002; LatestRevisionDate: 13-Apr-2006; LatestRevisionNote: IPC-7351 Footprint Added.; DatasheetVersion: Sep-1996; PackageVersion: 2000; PackageReference: M16A; Publisher: Altium Limited; PackageDescription: 16-Pin Small Outline Integrated Circuit 1.27 mm Pitch; Code_IPC: SOIC127P600-16; ComponentLink1Description: Manufacturer Link; ComponentLink1URL: http://www.national.com/; ComponentLink2Description: Discontinuation Notice; ComponentLink2URL: http://www.national.com/obs/obsolescence.txt; ComponentLink3Description: URL Link1; ComponentLink3URL: http://www.national.com/pf/LM/LMX2337.html
footprint M16A_N (SOIC, 16-Leads, Body 9.9x3.9mm, Pitch 1.27mm, IPC Medium Density)
footprint M16A_L (SOIC, 16-Leads, Body 9.9x3.9mm, Pitch 1.27mm, IPC High Density)
footprint M16A_M (SOIC, 16-Leads, Body 9.9x3.9mm, Pitch 1.27mm, IPC Low Density)
3D model M16A (16-Pin Small Outline Integrated Circuit 1.27 mm Pitch)
pins: 1 VCC1 (power), 2 VP1 (power), 3 DO1 (out), 4 GND (power), 5 FIN1 (in), 6 OSCI (in), 7 OSCO (out), 8 FO LD (out), 9 CLK (in), 10 DI (in), 11 LD EN (in), 12 FIN2 (in), 13 GND (power), 14 DO2 (out), 15 VP2 (power), 16 VCC2 (power)

## LMX2337MX
designator U?
550MHz/550MHz Dual Frequency Synthesizer for RF Personal Communilcation; ComponentAvailability: Obsolete; Published: 15-Apr-2002; LatestRevisionDate: 13-Apr-2006; LatestRevisionNote: IPC-7351 Footprint Added.; DatasheetVersion: Sep-1996; PackageVersion: 2000; PackageReference: M16A; Publisher: Altium Limited; PackageDescription: 16-Pin Small Outline Integrated Circuit 1.27 mm Pitch; Code_IPC: SOIC127P600-16; ComponentLink1Description: Manufacturer Link; ComponentLink1URL: http://www.national.com/; ComponentLink2Description: Discontinuation Notice; ComponentLink2URL: http://www.national.com/obs/obsolescence.txt; ComponentLink3Description: URL Link1; ComponentLink3URL: http://www.national.com/pf/LM/LMX2337.html
footprint M16A_N (SOIC, 16-Leads, Body 9.9x3.9mm, Pitch 1.27mm, IPC Medium Density)
footprint M16A_L (SOIC, 16-Leads, Body 9.9x3.9mm, Pitch 1.27mm, IPC High Density)
footprint M16A_M (SOIC, 16-Leads, Body 9.9x3.9mm, Pitch 1.27mm, IPC Low Density)
3D model M16A (16-Pin Small Outline Integrated Circuit 1.27 mm Pitch)
pins: 1 VCC1 (power), 2 VP1 (power), 3 DO1 (out), 4 GND (power), 5 FIN1 (in), 6 OSCI (in), 7 OSCO (out), 8 FO LD (out), 9 CLK (in), 10 DI (in), 11 LD EN (in), 12 FIN2 (in), 13 GND (power), 14 DO2 (out), 15 VP2 (power), 16 VCC2 (power)

## LMX2337TM
designator U?
550MHz/550MHz Dual Frequency Synthesizer for RF Personal Communilcation; ComponentAvailability: Obsolete; Published: 15-Apr-2002; LatestRevisionDate: 06-Jun-2005; LatestRevisionNote: Stylized 3D Model Added.; DatasheetVersion: Sep-1996; PackageVersion: 2000; PackageReference: MTC16; Publisher: Altium Limited; PackageDescription: Shrink Small Outline; 16 Leads; Body Width 4.4 mm; Pitch 0.65 mm; ComponentLink1Description: Manufacturer Link; ComponentLink1URL: http://www.national.com/; ComponentLink2Description: Discontinuation Notice; ComponentLink2URL: http://www.national.com/obs/obsolescence.txt; ComponentLink3Description: URL Link1; ComponentLink3URL: http://www.national.com/pf/LM/LMX2337.html
footprint MTC16 (Shrink Small Outline; 16 Leads; Body Width 4.4 mm; Pitch 0.65 mm)
3D model MTC16 (Shrink Small Outline; 16 Leads; Body Width 4.4 mm; Pitch 0.65 mm)
pins: 1 VCC1 (power), 2 VP1 (power), 3 DO1 (out), 4 GND (power), 5 FIN1 (in), 6 OSCI (in), 7 OSCO (out), 8 FO LD (out), 9 CLK (in), 10 DI (in), 11 LD EN (in), 12 FIN2 (in), 13 GND (power), 14 DO2 (out), 15 VP2 (power), 16 VCC2 (power)

## LMX2337TMX
designator U?
550MHz/550MHz Dual Frequency Synthesizer for RF Personal Communilcation; ComponentAvailability: Obsolete; Published: 15-Apr-2002; LatestRevisionDate: 06-Jun-2005; LatestRevisionNote: Stylized 3D Model Added.; DatasheetVersion: Sep-1996; PackageVersion: 2000; PackageReference: MTC16; Publisher: Altium Limited; PackageDescription: Shrink Small Outline; 16 Leads; Body Width 4.4 mm; Pitch 0.65 mm; ComponentLink1Description: Manufacturer Link; ComponentLink1URL: http://www.national.com/; ComponentLink2Description: Discontinuation Notice; ComponentLink2URL: http://www.national.com/obs/obsolescence.txt; ComponentLink3Description: URL Link1; ComponentLink3URL: http://www.national.com/pf/LM/LMX2337.html
footprint MTC16 (Shrink Small Outline; 16 Leads; Body Width 4.4 mm; Pitch 0.65 mm)
3D model MTC16 (Shrink Small Outline; 16 Leads; Body Width 4.4 mm; Pitch 0.65 mm)
pins: 1 VCC1 (power), 2 VP1 (power), 3 DO1 (out), 4 GND (power), 5 FIN1 (in), 6 OSCI (in), 7 OSCO (out), 8 FO LD (out), 9 CLK (in), 10 DI (in), 11 LD EN (in), 12 FIN2 (in), 13 GND (power), 14 DO2 (out), 15 VP2 (power), 16 VCC2 (power)